# EAGLE library part FDC638APZ (library Virulent_HW)
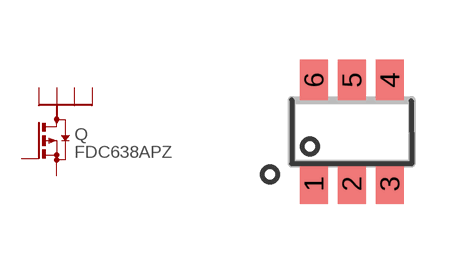
[diagram p14: symbol with the pads of SSOT-6; footprint SSOT-6]

Designator prefix Q

## FDC638APZ  [SSOT-6]
1  D4  pas
2  D1  pas
3  G  pas
4  S  pas
5  D2  pas
6  D3  pas

## Footprint SSOT-6 (pad centres in mm)
smd 0.7 x 1: 1 -0.95,-1.3; 2 0,-1.3; 3 0.95,-1.3; 4 0.95,1.3; 5 0,1.3; 6 -0.95,1.3